# EAGLE library part KDR10H (library mcpu)
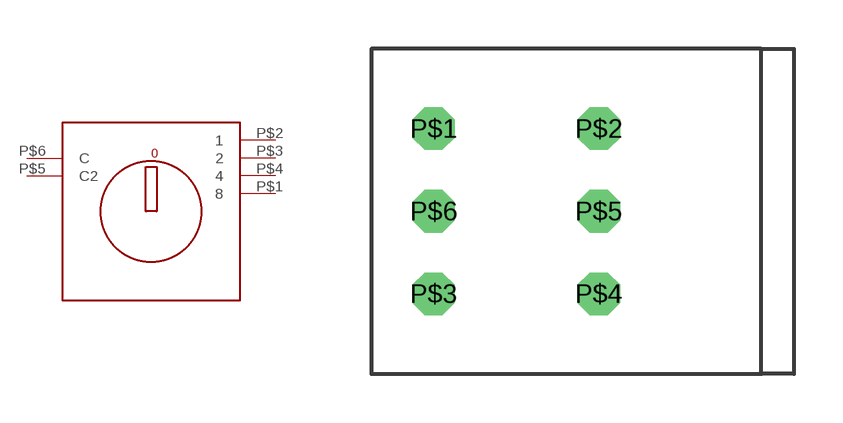
[diagram p2: symbol with the pads of KDR10H; footprint KDR10H]

Designator prefix -

## KDR10H  [KDR10H]
P$1  8
P$2  1
P$3  2
P$4  4
P$5  C2
P$6  C

## Footprint KDR10H (pad centres in mm)
drill 0.8 octagon: P$1 1.92,7.54; P$2 7,7.54; P$3 1.92,2.46; P$4 7,2.46; P$5 7,5; P$6 1.92,5